# Altium schematic symbol library MI_Personal.SchLib: 995 symbols (part 10 of 12)
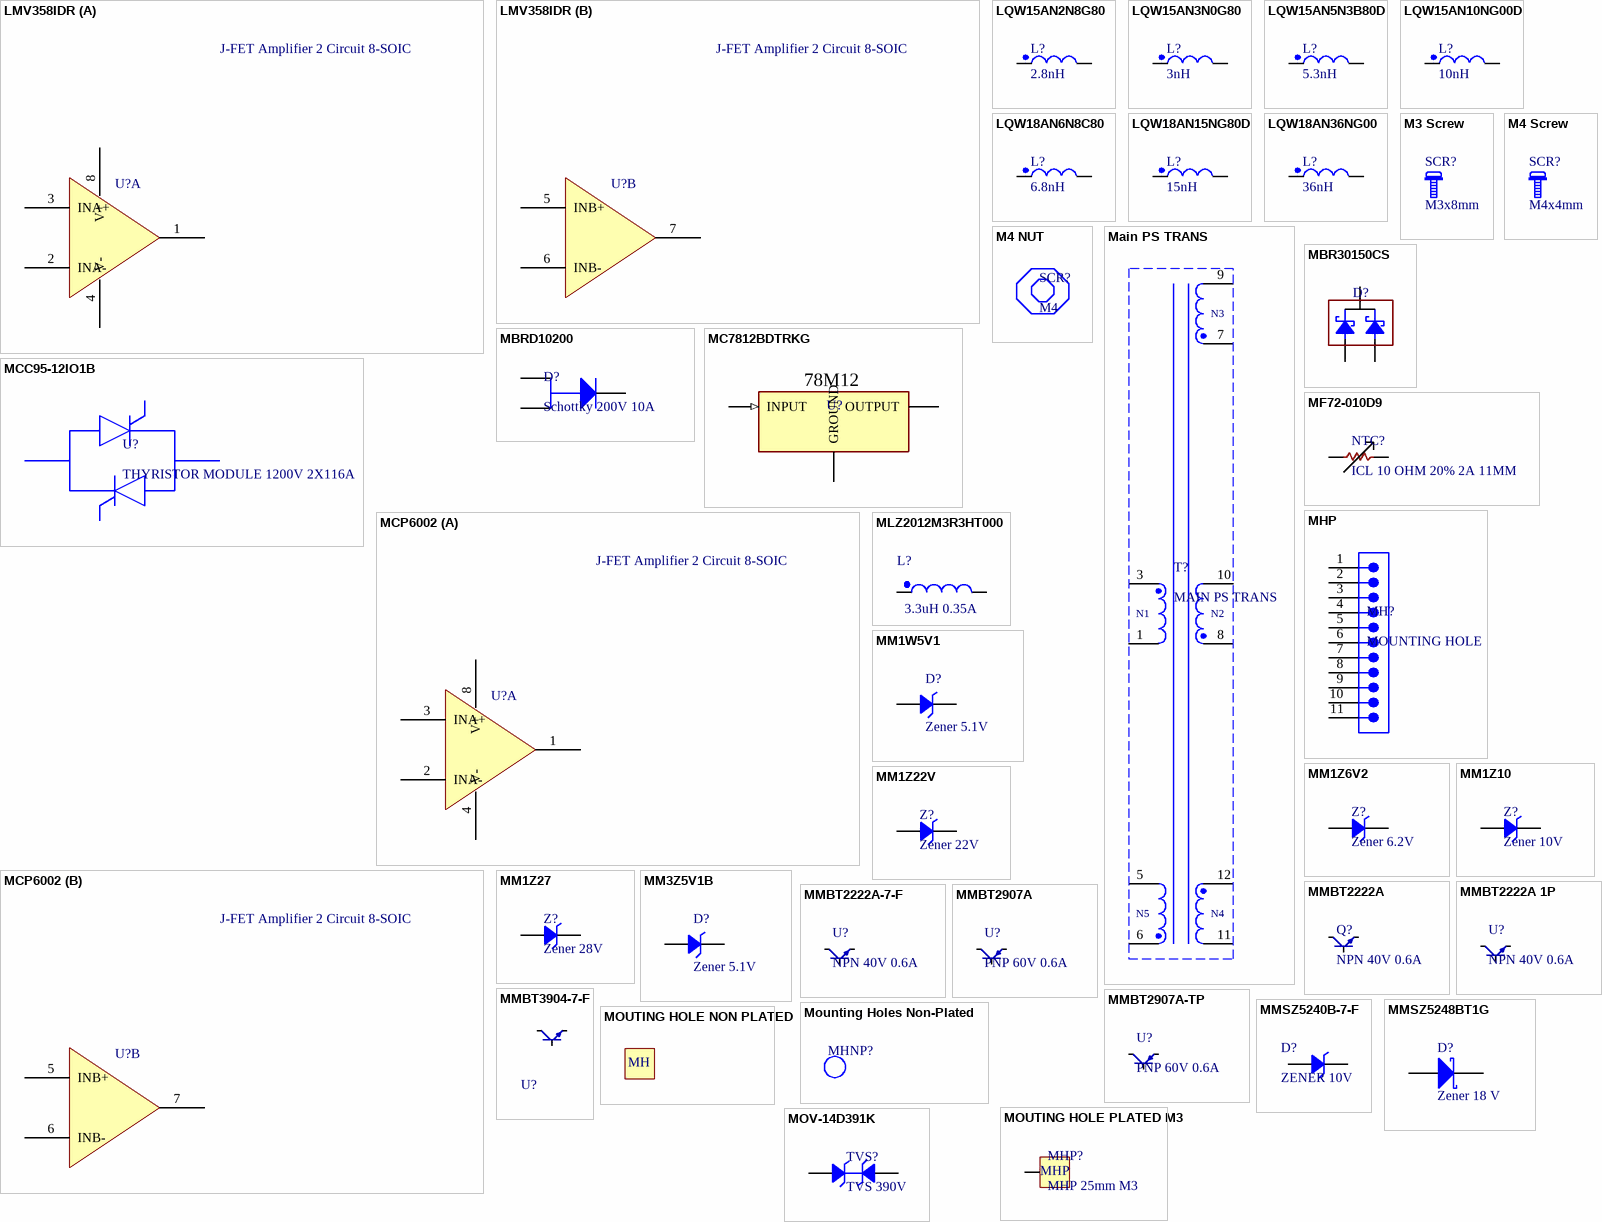
[diagram p36: symbols LMV358IDR to MOV-14D391K]

## M3 Screw
designator SCR?, comment M3x8mm  (mechanical)
MACH SCREW M3 Stainless Steel with Both Flat Washer and Spring Locking Washer; ComponentLink1Description: Supplier Link; ComponentLink1URL: https://yuanhonghardware.en.made-in-china.com/product/lGoYRHnrTcWE/China-Stainless-Steel-304-Indented-Phillips-Hex-Head-Machine-Screw-with-Flat-and-Spring-Washer-M3-M10-.html?pv_id=1ier004fa1cc&faw_id=1ier00aq0553; Supplier 1: Made In China; Supplier Part Number 1: https://yuanhonghardware.en.made-in-china.com/product/lGoYRHnrTcWE/China-Stainless-Steel-304-Indented-Phillips-Hex-Head-Machine-Screw-with-Flat-and-Spring-Washer-M3-M10-.html?pv_id=1ier004fa1cc&faw_id=1ier00aq0553

## M4 NUT
designator SCR?, comment M4  (mechanical)
MACH NUT M4 Stainless Steel; Supplier 1: Made In China; Supplier Part Number 1: https://yuanhonghardware.en.made-in-china.com/product/VAZYtWzvgDkG/China-Fastener-Stainless-Steel-304-Hexagon-Nuts-Metal-Hex-Nut-M2-M20-.html?pv_id=1iqdiia8bdf&faw_id=1iqdiifjoffa

## M4 Screw
designator SCR?, comment M4x4mm  (mechanical)
MACH SCREW M6 Stainless Steel with Both Flat Washer and Spring Locking Washer; ComponentLink1Description: Supplier Link; ComponentLink1URL: https://yuanhonghardware.en.made-in-china.com/product/lGoYRHnrTcWE/China-Stainless-Steel-304-Indented-Phillips-Hex-Head-Machine-Screw-with-Flat-and-Spring-Washer-M3-M10-.html?pv_id=1ier004fa1cc&faw_id=1ier00aq0553; Supplier 1: Made In China; Supplier Part Number 1: https://yuanhonghardware.en.made-in-china.com/product/lGoYRHnrTcWE/China-Stainless-Steel-304-Indented-Phillips-Hex-Head-Machine-Screw-with-Flat-and-Spring-Washer-M3-M10-.html?pv_id=1ier004fa1cc&faw_id=1ier00aq0553

## Main PS TRANS
designator T?, comment MAIN PS TRANS
TRANSFORMER FLYBACK
footprint SMPS Power Supply Transformer
pins: 1, 3, 5, 6, 7, 8, 9, 10, 11, 12
text: N3; N1; N2; N5; N4

## MBR30150CS
designator D?, comment DIODE ARR SCHOT 150V 15A TO263AB  (value not drawn)
Supplier 1: DigiKey; Supplier Part Number 1: 112-VB30150C-M3/8WCT-ND; Supplier 2: LCSC; Supplier Part Number 2: C22466281
footprint TO-263AB
pins: 1 A1, 2 A2, 3 C

## MBRD10200
designator D?, comment Schottky 200V 10A
DIODE SCHOTTKY 200V 10A DPAK; Supplier 1: Digikey; Supplier Part Number 1: 1655-SBRD10200CT-ND; Supplier 2: LCSC; Supplier Part Number 2: C5807938
footprint DPAK DIODE SMC Diode
pins: 1 A, 2 A, 3 K

## MC7812BDTRKG
designator U?, comment REG LINEAR 12V  (value not drawn)
IC REG LINEAR 12V 1A DPAK; Supplier 1: DigiKey; Supplier Part Number 1: MC7812BDTRKGOSCT-ND; Supplier 2: LCSC; Supplier Part Number 2: C126398
footprint DPACK
pins: 1 INPUT (in), 2 OUTPUT (power), 3 GROUND (power)
text: 78M12

## MCC95-12IO1B
designator U?, comment THYRISTOR MODULE 1200V 2X116A  (mechanical)
SCR Module 1.2 kV 180 A Series Connection - All SCRs Chassis Mount TO-240AA; Supplier 1: Digikey; Supplier 2: Mouser; Supplier Part Number 2: 747-MCC95-12IO1B; ComponentLink1Description: DIGIKEY; ComponentLink1URL: https://www.digikey.com/en/products/detail/ixys/MCC95-12IO1B/280991; ComponentLink2Description: FLYWING; ComponentLink2URL: https://www.flywing-tech.com/p/4987150?utm_source=octopart&utm_medium=cpc&utm_campaign=flywing_launch; Supplier Part Number 1: MCC95-12IO1B-ND

## MCP6002
designator U?, comment J-FET Amplifier 2 Circuit 8-SOIC
IC OPAMP GP 2 CIRCUIT 8SOIC RAIL TO RAIL; Supplier 1: UGE; Supplier Part Number 1: https://uge-one.com/product/gs6002-sr-mcp6002-compatible-1mhz-rail-to-rail-input-output-opamp-with-rf-filter-sop8/; ComponentLink1Description: UGE; ComponentLink1URL: https://uge-one.com/product/gs6002-sr-mcp6002-compatible-1mhz-rail-to-rail-input-output-opamp-with-rf-filter-sop8/
footprint SOIC-8 (SOIC - 1.75 mm max height / SMALL OUTLINE INTEGRATED CIRCUIT)
part A pins: 1 OUT, 2 INA-, 3 INA+, 4 V- (power), 8 V+ (power)
part B pins: 5 INB+, 6 INB-, 7 OUTB

## MF72-010D9
designator NTC?, comment ICL 10 OHM 20% 2A 11MM
Supplier 1: Digikey; Supplier Part Number 1: 495-76284-1-ND; Supplier 2: LCSC; Supplier Part Number 2: C72679; Supplier 3: Digikey; Supplier Part Number 3: 317-1161-ND; Supplier 4: LCSC; Supplier Part Number 4: C2839611
footprint NTC 7.5MM
pins: 1 A, 2 B

## MHP
designator MH?, comment MOUNTING HOLE  (no BOM)
MOUNTING HOLE FOR PIN HEADERS R=11mm P = 2.54mm
footprint MOUNTING HOLES P=2.54mm
pins: 1, 2, 3, 4, 5, 6, 7, 8, 9, 10, 11

## MLZ2012M3R3HT000
designator L?, comment 3.3uH 0.35A
FIXED IND 3.3uH 0805 0.350A; Supplier 1: LCSC; Supplier Part Number 1: C383407
footprint IND 0805
pins: 1, 2

## MM1W5V1
designator D?, comment Zener 5.1V
DIODE JLC ZENER  5.1 V 1W ±5% Surface Mount SOD-123; Supplier 1: LCSC; Supplier Part Number 1: C19077393
footprint SOD-123 (SOD, 2-Leads, Body 1.55x3.70mm, IPC Medium Density)
pins: 1, 2

## MM1Z6V2
designator Z?, comment Zener 6.2V
Diode Zener 6v2 SOD123; Supplier 1: Makers; Supplier Part Number 1: https://makerselectronics.com/product/mm1z6v2-wa-zener-diode-smd-single-5-8v6-6v-500mw-6-2v-sod-123; ComponentLink1Description: Makers; ComponentLink1URL: https://makerselectronics.com/product/mm1z6v2-wa-zener-diode-smd-single-5-8v6-6v-500mw-6-2v-sod-123
footprint SOD-123 (SOD, 2-Leads, Body 1.55x3.70mm, IPC Medium Density)
pins: 1, 2

## MM1Z10
designator Z?, comment Zener 10V
Diode Zener 10V SOD123; Supplier 1: Makers; Supplier Part Number 1: https://makerselectronics.com/product/mm1z10-wf-zener-diode-smd-single-9-4v10-6v-500mw-10v-sod-123/; ComponentLink1Description: Makers; ComponentLink1URL: https://makerselectronics.com/product/mm1z10-wf-zener-diode-smd-single-9-4v10-6v-500mw-10v-sod-123/
footprint SOD-123 (SOD, 2-Leads, Body 1.55x3.70mm, IPC Medium Density)
pins: 1, 2

## MM1Z22V
designator Z?, comment Zener 22V
Diode Zener 22V SOD123; Supplier 1: Makers; Supplier Part Number 1: https://makerselectronics.com/product/mm1z22v-wn-zener-diode-smd-single-20-8v23-3v-500mw-22v-sod-123/; ComponentLink1Description: Makers; ComponentLink1URL: https://makerselectronics.com/product/mm1z22v-wn-zener-diode-smd-single-20-8v23-3v-500mw-22v-sod-123/
footprint SOD-123 (SOD, 2-Leads, Body 1.55x3.70mm, IPC Medium Density)
pins: 1, 2

## MM1Z27
designator Z?, comment Zener 28V
Diode Zener 28V SOD123; Supplier 1: Makers; Supplier Part Number 1: https://makerselectronics.com/product/mm1z27-wp-zener-diode-smd-single-25-1v28-9v-500mw-27v-sod-123/; ComponentLink1Description: Makers; ComponentLink1URL: https://makerselectronics.com/product/mm1z27-wp-zener-diode-smd-single-25-1v28-9v-500mw-27v-sod-123/
footprint SOD-123 (SOD, 2-Leads, Body 1.55x3.70mm, IPC Medium Density)
pins: 1, 2

## MM3Z5V1B
designator D?, comment Zener 5.1V
DIODE JLC ZENER  5.1 V 300 mW ±5% Surface Mount SOD-323; Supplier 1: LCSC; Supplier Part Number 1: C22379454
footprint SOD 323 (SOD, 2-Leads, Body 1.25x2.50mm, IPC Medium Density)
pins: 1, 2

## MMBT2222A
designator Q?, comment NPN 40V 0.6A
TRANS NPN 40V 0.6A SOT-23-3; Supplier 1: MAKERS; Supplier Part Number 1: https://makerselectronics.com/product/mmbt2222a-40v-250mw-100150ma10v-600ma-npn-sot-23-bipolar-transistors-bjt/; ComponentLink1Description: MAKERS; ComponentLink1URL: https://makerselectronics.com/product/mmbt2222a-40v-250mw-100150ma10v-600ma-npn-sot-23-bipolar-transistors-bjt/
footprint SOT23-3 (SOT23-3, BAT54, DIODES INC)
pins: 1 B, 2 E, 3 C

## MMBT2222A 1P
designator U?, comment NPN 40V 0.6A
TRANS JLC NPN 40V 0.6A SOT-23-3; Supplier 2: LCSC; Supplier Part Number 2: C8512
footprint SOT23-3 (SOT23-3, BAT54, DIODES INC)
pins: 1 B, 2 E, 3 C

## MMBT2222A-7-F
designator U?, comment NPN 40V 0.6A
TRANS NPN 40V 0.6A SOT-23-3; Supplier 1: DigiKey; Supplier Part Number 1: MMBT2222A-FDICT-ND; Supplier 2: LCSC; Supplier Part Number 2: C179396; Supplier 3: Digikey; Supplier Part Number 3: MMBT2222ALT1GOSCT-ND; Supplier 4: LCSC; Supplier Part Number 4: C82460
footprint SOT23-3 (SOT23-3, BAT54, DIODES INC)
pins: 1 B, 2 E, 3 C

## MMBT2907A
designator U?, comment PNP 60V 0.6A
TRANS JLC PNP 60V 0.6A SOT-23; Supplier 1: LCSC; Supplier Part Number 1: C7420352
footprint SOT23-3 (SOT23-3, BAT54, DIODES INC)
pins: 1 B, 2 E, 3 C

## MMBT2907A-TP
designator U?, comment PNP 60V 0.6A
TRANS PNP 60V 0.6A SOT-23; Supplier 1: Digikey; Supplier Part Number 1: MMBT2907A-TPMSCT-ND; Supplier 2: LCSC; Supplier Part Number 2: C668968; Supplier 3: Digikey; Supplier Part Number 3: MMBT2907A-FDICT-ND; Supplier 4: LCSC; Supplier Part Number 4: C106923
footprint SOT23-3 (SOT23-3, BAT54, DIODES INC)
pins: 1 B, 2 E, 3 C

## MMBT3904-7-F
designator U?, comment TRANS NPN 40V 0.2A SOT23-3  (value not drawn)
TRANS NPN Bipolar (BJT)  40 V 200 mA 300MHz 300 mW Surface Mount SOT-23-3; Supplier 1: Digikey; Supplier Part Number 1: MMBT3904-FDICT-ND; Supplier 2: LCSC; Supplier Part Number 2: C94514; Supplier 3: Digikey; Supplier Part Number 3: MMBT3904LT1GOSCT-ND; Supplier 4: LCSC; Supplier Part Number 4: C81464
footprint SOT23 MMBT3904
pins: 1 B, 2 E, 3 C

## MMSZ5240B-7-F
designator D?, comment ZENER 10V
DIODE ZENER 10V 500MW SOD123; Supplier 1: Digikey; Supplier Part Number 1: BZT52C15-FDICT-ND; Supplier 2: LCSC; Supplier Part Number 2: C151060
footprint SOD-123 (SOD, 2-Leads, Body 1.55x3.70mm, IPC Medium Density)
pins: 1, 2

## MMSZ5248BT1G
designator D?, comment Zener 18 V
DIODE ZENER 18V 500MW SOD123; Supplier 1: Digikey; Supplier Part Number 1: MMSZ5248BT1GOSCT-ND; Supplier 2: LCSC; Supplier Part Number 2: C82088; Supplier 3: Digikey; Supplier Part Number 3: BZT52C18-FDICT-ND; Supplier 4: LCSC; Supplier Part Number 4: C192739
footprint SOD-123 (SOD, 2-Leads, Body 1.55x3.70mm, IPC Medium Density)
pins: 1 A, 2 K

## Mounting Holes Non-Plated
designator MHNP?, comment Mounting Hole NonPlated  (value not drawn)  (no BOM)
MHNP Mounting Hole for PCB Chassis Mounting
footprint Mounting Hole Non-Plated

## MOUTING HOLE NON PLATED
designator MHP?  (no BOM)
mechanical mounting hole non plated D 6mm
footprint mounting hole non plated D 5mm
footprint mounting hole non plated D 6mm
text: MH

## MOUTING HOLE PLATED M3
designator MHP?, comment MHP 25mm M3
SPACER M3 Mounting Hole 25mm; Supplier 1: RAM; Supplier Part Number 1: https://www.ram-e-shop.com/shop/spacer-cupper-25mf-copper-pcb-spacer-25mm-m-f-5575; ComponentLink1Description: RAM; ComponentLink1URL: https://www.ram-e-shop.com/shop/spacer-cupper-25mf-copper-pcb-spacer-25mm-m-f-5575
footprint Mounting Hole Plated (M3+SPACER 25MM)
pins: 1
text: MHP

## MOV-14D391K
designator TVS?, comment TVS 390V
VARISTOR 390V; Supplier 1: Makers; Supplier Part Number 1: https://makerselectronics.com/product/metal-oxide-varistor-mov-14d391k; ComponentLink1Description: Makers; ComponentLink1URL: https://makerselectronics.com/product/metal-oxide-varistor-mov-14d391k
footprint MOV-14D391K
pins: 1, 2

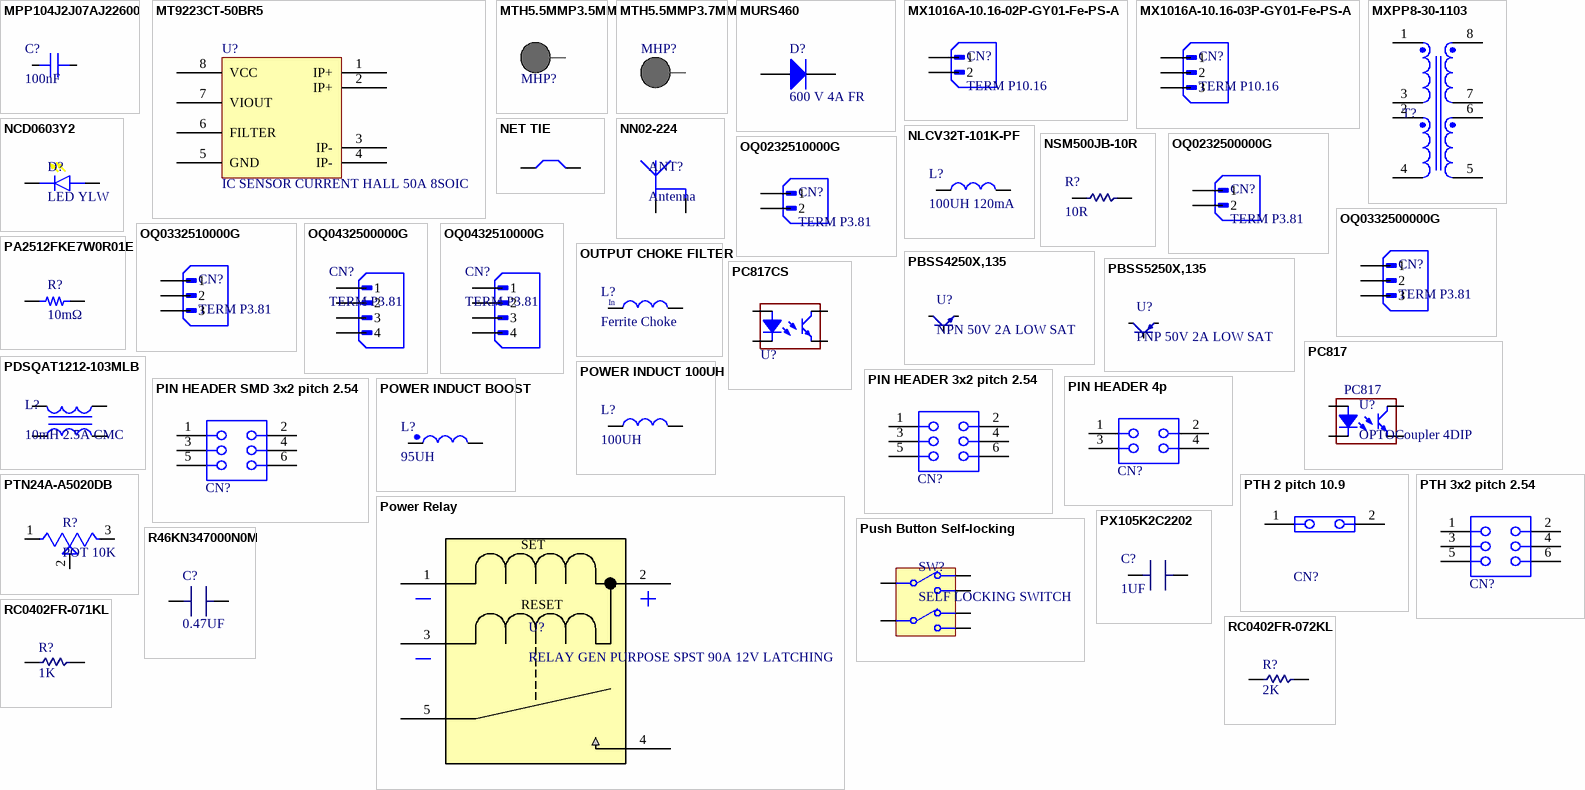
[diagram p17: symbols MPP104J2J07AJ22600 to RC0402FR-072KL]

## MPP104J2J07AJ22600
designator C?, comment 100nF
CAP FILM 100nF ±5% 630V TH; Supplier 1: LCSC; Supplier Part Number 1: C506826
footprint FILM Capacitor 7.5mm 5x10x10
pins: 1, 2

## MT9223CT-50BR5
designator U?, comment IC SENSOR CURRENT HALL 50A 8SOIC
IC Current Sensor 50A 1 Channel Hall Effect, Open Loop Bidirectional 8-SOIC (0.154", 3.90mm Width); Supplier 2: LCSC; Supplier Part Number 2: C2930869
footprint SOIC 8 ACS71240
pins: 1 IP+, 2 IP+, 3 IP-, 4 IP-, 5 GND, 6 FILTER, 7 VIOUT, 8 VCC

## MTH5.5MMP3.5MM
designator MHP?, comment Mounting Hole Plated 5 3.5MM  (value not drawn)  (no BOM)
footprint MTHP 5.5 3.5MM
pins: 1

## MTH5.5MMP3.7MM
designator MHP?, comment Mounting Hole Plated 5 3.7MM  (value not drawn)  (no BOM)
footprint MTHP 5.5 3.7MM
pins: 1

## MURS460
designator D?, comment 600 V 4A FR
Diode 600V 4A FAST RECOVERY SMC(DO-214AB); Supplier 1: DigiKey; Supplier Part Number 1: 31-MURS460CCT-ND; Supplier 2: LCSC; Supplier Part Number 2: C5818963
footprint DO-214AB-2 (Molded Diode, 2-Leads, Body 7.20x5.80mm, IPC Low Density)
pins: 1 A, 2 K

## MX1016A-10.16-02P-GY01-Fe-PS-A
designator CN?, comment TERM P10.16
CONN TERM SCREW HDR 2POS 10.16MM 57A; Supplier 1: LCSC; Supplier Part Number 1: C5188530
footprint Terminal Block P=10.16 2POS
pins: 1, 2

## MX1016A-10.16-03P-GY01-Fe-PS-A
designator CN?, comment TERM P10.16
CONN TERM SCREW HDR 3POS 10.16MM 57A; Supplier Part Number 1: C5188531; Supplier 1: LCSC
footprint Terminal Block P=10.16 3POS
pins: 1, 2, 3

## MXPP8-30-1103
designator T?, comment Pulse Transformer  (value not drawn)
TRANSFORMER SMD-8P,12.1x8.3mm Power Transformers ROHS; Supplier 1: LCSC; Supplier Part Number 1: C19943836
footprint Pulse Transformer 8Pin (Transformer 1:1:1:1)
pins: 1, 2, 3, 4, 5, 6, 7, 8

## NCD0603Y2
designator D?, comment LED YLW
LED YELLOW CHIP 0604 SMD; Supplier 2: LCSC; Supplier Part Number 2: C89811
footprint LED 0603
pins: 1 A, 2 C

## NET TIE
designator NT?  (net tie, no BOM)
NET TIE
footprint NET TIE
pins: 1, 2

## NLCV32T-101K-PF
designator L?, comment 100UH 120mA
FIXED IND 100UH 120MA 4.81OHM SM; Supplier 1: Digikey; Supplier Part Number 1: 445-1543-1-ND; Supplier 2: LCSC; Supplier Part Number 2: C75081; Supplier 3: Digikey; Supplier Part Number 3: 587-1628-1-ND; Supplier 4: LCSC; Supplier Part Number 4: C90316
footprint IND 1210_3225
pins: 1 A, 2 B

## NN02-224
designator ANT?, comment Antenna
RF ANTENNA RUN MXTEND MULTIBAND; Supplier 1: DigiKey; Supplier Part Number 1: 2115-NN02-224CT-ND; Supplier 2: WORLDWAY; Supplier Part Number 2: NN02-224
footprint NN02-224 (RUN MXTEND MULTIBAND ANTENNA)
pins: 1, 2

## NSM500JB-10R
designator R?, comment 10R
RES 10 OHM 5% 5W RADIAL CEMENT RESISTOR; Supplier 1: DigiKey; Supplier Part Number 1: 13-NSM500JB-10R-ND
footprint RES_SQM5 P=5mm
pins: 1 A, 2 B

## OQ0232500000G
designator CN?, comment TERM P3.81
CONN TERM PLUG HDR 2POS 3.81MM VERT; Supplier 2: LCSC; Supplier Part Number 2: C8396; Supplier 1: DigiKey; Supplier Part Number 1: 609-3808-ND
footprint Terminal Block Pluggable P=3.81 2 POS VERT (Vertical PCB Header, pitch 3.81mm, 02p)
pins: 1, 2

## OQ0232510000G
designator CN?, comment TERM P3.81
CONN TERM PLUG HDR 2POS 3.81MM; Supplier 1: DigiKey; Supplier Part Number 1: 609-3819-ND; Supplier 2: LCSC; Supplier Part Number 2: C8387
footprint Terminal Block Pluggable P=3.81 2 POS (Horizontal PCB Header, pitch 3.81mm, 02p)
pins: 1, 2

## OQ0332500000G
designator CN?, comment TERM P3.81
CONN TERM PLUG HDR 3POS 3.81MM VERT; Supplier 1: DigiKey; Supplier Part Number 1: 609-3809-ND; Supplier 2: LCSC; Supplier Part Number 2: C8389
footprint Terminal Block Pluggable P=3.81 3 POS VERT (Vertical PCB Header, pitch 3.81mm, 03p)
pins: 1, 2, 3

## OQ0332510000G
designator CN?, comment TERM P3.81
CONN TERM PLUG HDR 3POS 3.81MM; Supplier 1: DigiKey; Supplier Part Number 1: 609-3820-ND; Supplier 2: LCSC; Supplier Part Number 2: C8387
footprint Terminal Block Pluggable P=3.81 3 POS (Horizontal PCB Header, pitch 3.81mm, 03p)
pins: 1, 2, 3

## OQ0432500000G
designator CN?, comment TERM P3.81
CONN TERM PLUG HDR 4POS 3.81MM VERT; Supplier 1: DigiKey; Supplier Part Number 1: 609-3810-ND; Supplier 2: LCSC; Supplier Part Number 2: C8410
footprint Terminal Block Pluggable P=3.81 4 POS VERT (Vertical PCB Header, pitch 3.81mm, 04p)
pins: 1, 2, 3, 4

## OQ0432510000G
designator CN?, comment TERM P3.81
CONN TERM PLUG HDR 4POS 3.81MM; Supplier 1: DigiKey; Supplier Part Number 1: 609-3821-ND; Supplier 2: LCSC; Supplier Part Number 2: C7245
footprint Terminal Block Pluggable P=3.81 4 POS (Horizontal PCB Header, pitch 3.81mm, 04p)
pins: 1, 2, 3, 4

## OUTPUT CHOKE FILTER
designator L?, comment Ferrite Choke
FIXED IND 4UH FERRITE
footprint Output Filter Choke
pins: 1 A, 2 B
text: In

## PA2512FKE7W0R01E
designator R?, comment 10mΩ
RES SMD 0.01 OHM 1% 2W 2512 CURRENT SENSE; Supplier 1: LCSC; Supplier Part Number 1: C375688
footprint RES 2512 SENSE RES YAGEO 7m < R < 20m (Footprint not found)
pins: 1, 2

## PBSS4250X,135
designator U?, comment NPN 50V 2A LOW SAT
TRANS NPN 50V 2A SOT-89; Supplier 1: Digikey; Supplier Part Number 1: 1727-5365-1-ND; Supplier 2: LCSC; Supplier Part Number 2: C477987
footprint SOT89 (SOT89, 3-Leads, Body 4.50x2.50mm, Pitch 1.50mm, Lead Span 4.1mm, IPC Medium Density)
pins: 1 B, 2 E, 3 C

## PBSS5250X,135
designator U?, comment PNP 50V 2A LOW SAT
TRANS PNP 50V 2A SOT-89; Supplier 1: Digikey; Supplier Part Number 1: 1727-1198-1-ND; Supplier 2: LCSC; Supplier Part Number 2: C513116
footprint SOT89 (SOT89, 3-Leads, Body 4.50x2.50mm, Pitch 1.50mm, Lead Span 4.1mm, IPC Medium Density)
pins: 1 B, 2 E, 3 C

## PC817
designator U?, comment OPTOCoupler 4DIP
IC OPTOISOLATOR 1CH TRANS 4-DIP; Supplier 1: Makers; Supplier Part Number 1: https://makerselectronics.com/product/pc817-photocoupler-ic-dip-4; ComponentLink1Description: Makers; ComponentLink1URL: https://makerselectronics.com/product/pc817-photocoupler-ic-dip-4
footprint OPTOCOUPLE PC817 DIP
pins: 1, 2, 3, 4

## PC817CS
designator U?, comment OPTOISOLATOR 5KV TRANSISTOR 4SMD  (value not drawn)
IC Optoisolator Transistor Output 5000Vrms 1 Channel 4-SMD; Supplier 2: LCSC; Supplier Part Number 2: C20612591
footprint SOP 4 817 OptoCoupler (SOP, 4-Leads, Body 4.60x6.50mm, Pitch 2.54mm, IPC Medium Density)
pins: 1, 2, 3, 4

## PDSQAT1212-103MLB
designator L?, comment 10mH 2.5A CMC
FIXED CMC 10mH 2.5A 2LN TH; Supplier 1: Worldway Electronics; Supplier Part Number 1: PDSQAT1212-103MLB; Supplier 2: LCSC; Supplier Part Number 2: C5157134
footprint common mode choke P8x6 S18x11
pins: 1, 2, 3, 4

## PIN HEADER 3x2 pitch 2.54
designator CN?, comment CONN PIN HEADER 3x2  (value not drawn)
CONN Socket Header, THT, Vertical, pitch 2.54mm, 2 Row, 6P
footprint PIN HEADER TH 2x3 (Pin Header, pitch 2.54 mm, THT, Vertical, dual row, 6p)
pins: 1, 2, 3, 4, 5, 6

## PIN HEADER 4p
designator CN?, comment PIN HEADER 4P  (value not drawn)
CONN CONN PIN HEADER VERT 4POS 2.54MM
footprint PIN HEADER 4P 2.54mm (Pin Header, pitch 2.54 mm, THT, Vertical, single row, 4p)
pins: 1, 2, 3, 4

## PIN HEADER SMD 3x2 pitch 2.54
designator CN?, comment CONN PIN HEADER 3x2  (value not drawn)
CONN SMD Socket Header, THT, Vertical, pitch 2.54mm, 2 Row, 6P
footprint PIN HEADER SMD 2x3 (Pin Header, pitch 2.54 mm, SMD, Vertical, dual row, 6p)
pins: 1, 2, 3, 4, 5, 6

## POWER INDUCT 100UH
designator L?, comment 100UH
FIXED INDUCT 100UH 7A
footprint POWER INDUCT 100UH
pins: 1 A, 2 B

## POWER INDUCT BOOST
designator L?, comment 95UH
FIXED INDUCT POWER 95UH
footprint power inductor pfc 95uh
pins: 1 A, 2 B

## Power Relay
designator U?, comment RELAY GEN PURPOSE SPST 90A 12V LATCHING
ComponentLink1Description: Made In China; ComponentLink1URL: https://goodvic.en.made-in-china.com/product/LaHrmShUaocb/China-Customized-Automotive-Latching-Relay-and-Shunt-Assemblies-for-Energy-Meters.html?pv_id=1ifn7fe6sb2d&faw_id=1ifn7fev6445; Supplier 1: Made In China; Supplier Part Number 1: https://goodvic.en.made-in-china.com/product/LaHrmShUaocb/China-Customized-Automotive-Latching-Relay-and-Shunt-Assemblies-for-Energy-Meters.html?pv_id=1ifn7fe6sb2d&faw_id=1ifn7fev6445
footprint CUSTOM Power Relay
pins: 1, 2 4, 3 2, 4 3, 5
text: SET; RESET

## PTH 2 pitch 10.9
designator CN?  (value not drawn)
CONN PTH 2 pitch 10.9  D=1.1 , 2 Row, 6P
footprint PTH 2POS To-247 GATE SOURCE
pins: 1 G, 2 S

## PTH 3x2 pitch 2.54
designator CN?, comment PTH 3x2 P=2.54 D=1.1  (value not drawn)
CONN PTH 3x2 P=2.54 D=1.1 , 2 Row, 6P
footprint PTH 2x3 D=1.1mm p= 2.54 mm (pitch 2.54 mm, THT, dual row, 6p)
pins: 1, 2, 3, 4, 5, 6

## PTN24A-A5020DB
designator R?, comment POT 10K
RES POT TH 10K; Supplier 1: Makers; Supplier Part Number 1: https://makerselectronics.com/product/metal-potentiometer-10k-ohm-3-pin; ComponentLink1Description: Makers; ComponentLink1URL: https://makerselectronics.com/product/metal-potentiometer-10k-ohm-3-pin
footprint TRIM_PTN24A-A5020DB
pins: 1, 2, 3

## Push Button Self-locking
designator SW?, comment SELF LOCKING SWITCH
SWITCH SELF LOCKING 6PIN 5.8X5.8
footprint Push Button 5.8×5.8mm latching
pins: 1, 2, 3, 4, 5, 6

## PX105K2C2202
designator C?, comment 1UF
CAP FILM 1UF 20% 630VDC RADIAL; Supplier 1: DigiKey; Supplier Part Number 1: 399-5870-ND; Supplier 2: LCSC; Supplier Part Number 2: C390065
footprint CAP FILM 22.5mm
pins: 1 A, 2 B

## R46KN347000N0M
designator C?, comment 0.47UF
CAP FILM 0.47UF 20% 560VDC RAD; Supplier 1: Digikey; Supplier Part Number 1: 399-5465-ND; Supplier 2: LCSC; Supplier Part Number 2: C489090; Supplier 3: Digikey; Supplier Part Number 3: 495-4206-ND; Supplier 4: LCSC; Supplier Part Number 4: C484945
footprint CAP_R46KN347000N0M_KEM
pins: 1 A, 2 B

## RC0402FR-071KL
designator R?, comment 1K
RES SMD 1K OHM 1% 1/16W 0402; Supplier 1: DigiKey; Supplier Part Number 1: 311-1.00KLRCT-ND; Supplier 2: LCSC; Supplier Part Number 2: C106235
footprint RES 0402_1005 (Chip Resistor, 2-Leads, Body 1.0x0.5mm, IPC Medium Density)
pins: 1 A, 2 B

## RC0402FR-072KL
designator R?, comment 2K
RES SMD 2K OHM 1% 1/16W 0402; Supplier 1: DigiKey; Supplier Part Number 1: 311-2KLRCT-ND; Supplier 2: LCSC; Supplier Part Number 2: C60488
footprint RES 0402_1005 (Chip Resistor, 2-Leads, Body 1.0x0.5mm, IPC Medium Density)
pins: 1 A, 2 B

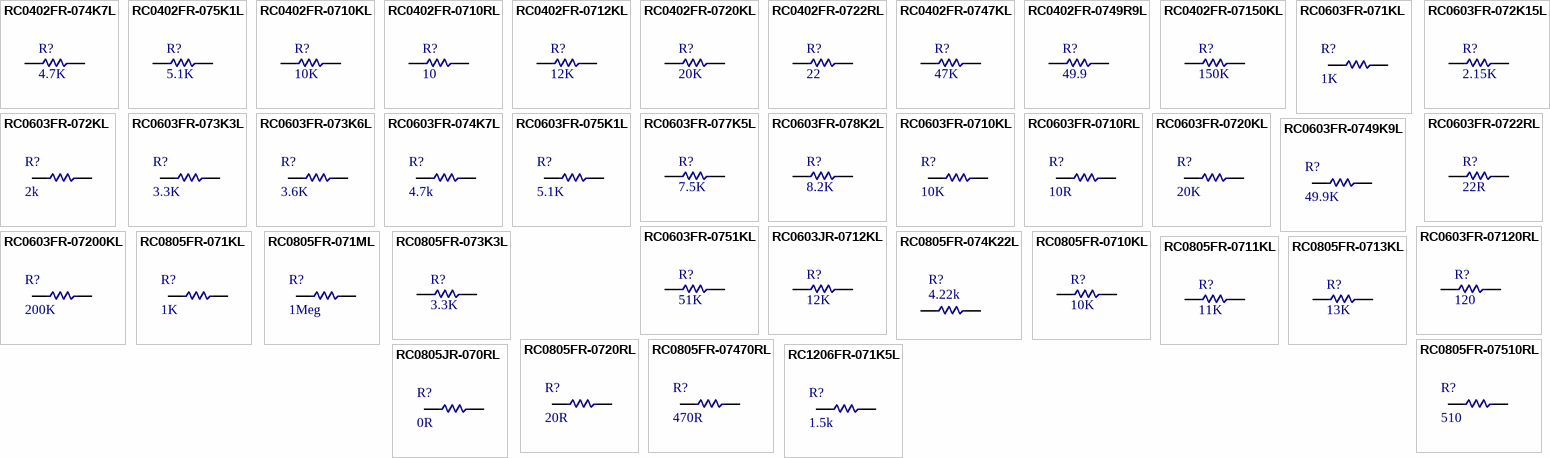
[diagram p18: symbols RC0402FR-074K7L to RC1206FR-071K5L]

## RC0402FR-074K7L
designator R?, comment 4.7K
RES SMD 4.7K OHM 1% 1/16W 0402; Supplier 1: DigiKey; Supplier Part Number 1: 311-4.7KLRCT-ND; Supplier 2: LCSC; Supplier Part Number 2: C105871
footprint RES 0402_1005 (Chip Resistor, 2-Leads, Body 1.0x0.5mm, IPC Medium Density)
pins: 1 A, 2 B

## RC0402FR-075K1L
designator R?, comment 5.1K
RES SMD 5.1K OHM 1% 1/16W 0402; Supplier 1: DigiKey; Supplier Part Number 1: 311-5.10KLRCT-ND; Supplier 2: LCSC; Supplier Part Number 2: C105872
footprint RES 0402_1005 (Chip Resistor, 2-Leads, Body 1.0x0.5mm, IPC Medium Density)
pins: 1 A, 2 B

## RC0402FR-0710KL
designator R?, comment 10K
RES SMD 10K OHM 1% 1/16W 0402; Supplier 1: DigiKey; Supplier Part Number 1: 311-10.0KLRCT-ND; Supplier 2: LCSC; Supplier Part Number 2: C60490
footprint RES 0402_1005 (Chip Resistor, 2-Leads, Body 1.0x0.5mm, IPC Medium Density)
pins: 1 A, 2 B

## RC0402FR-0710RL
designator R?, comment 10
RES SMD 10 OHM 1% 1/16W 0402; Supplier 1: DigiKey; Supplier Part Number 1: 311-10.0LRCT-ND; Supplier 2: LCSC; Supplier Part Number 2: C138066
footprint RES 0402_1005 (Chip Resistor, 2-Leads, Body 1.0x0.5mm, IPC Medium Density)
pins: 1 A, 2 B

## RC0402FR-0712KL
designator R?, comment 12K
RES SMD 12K OHM 1% 1/16W 0402; Supplier 1: DigiKey; Supplier Part Number 1: 311-12.0KLRCT-ND; Supplier 2: LCSC; Supplier Part Number 2: C114760
footprint RES 0402_1005 (Chip Resistor, 2-Leads, Body 1.0x0.5mm, IPC Medium Density)
pins: 1 A, 2 B

## RC0402FR-0720KL
designator R?, comment 20K
RES SMD 20K OHM 1% 1/16W 0402; Supplier 1: DigiKey; Supplier Part Number 1: 311-20.0KLRCT-ND; Supplier 2: LCSC; Supplier Part Number 2: C93942
footprint RES 0402_1005 (Chip Resistor, 2-Leads, Body 1.0x0.5mm, IPC Medium Density)
pins: 1 A, 2 B

## RC0402FR-0722RL
designator R?, comment 22
RES SMD 22 OHM 1% 1/16W 0402; Supplier 1: DigiKey; Supplier Part Number 1: 311-22.0LRCT-ND; Supplier 2: LCSC; Supplier Part Number 2: C114765
footprint RES 0402_1005 (Chip Resistor, 2-Leads, Body 1.0x0.5mm, IPC Medium Density)
pins: 1 A, 2 B

## RC0402FR-0747KL
designator R?, comment 47K
RES SMD 47K OHM 1% 1/16W 0402; Supplier 1: DigiKey; Supplier Part Number 1: 311-47.0KLRCT-ND; Supplier 2: LCSC; Supplier Part Number 2: C93943
footprint RES 0402_1005 (Chip Resistor, 2-Leads, Body 1.0x0.5mm, IPC Medium Density)
pins: 1 A, 2 B

## RC0402FR-0749R9L
designator R?, comment 49.9
RES SMD 49.9 OHM 1% 1/16W 0402; Supplier 1: DigiKey; Supplier Part Number 1: 311-49.9LRCT-ND; Supplier 2: LCSC; Supplier Part Number 2: C87044
footprint RES 0402_1005 (Chip Resistor, 2-Leads, Body 1.0x0.5mm, IPC Medium Density)
pins: 1 A, 2 B

## RC0402FR-07150KL
designator R?, comment 150K
RES SMD 150K OHM 1% 1/16W 0402; Supplier 1: DigiKey; Supplier Part Number 1: 311-150KLRCT-ND; Supplier 2: LCSC; Supplier Part Number 2: C93947
footprint RES 0402_1005 (Chip Resistor, 2-Leads, Body 1.0x0.5mm, IPC Medium Density)
pins: 1 A, 2 B

## RC0603FR-071KL
designator R?, comment 1K
RES SMD 1K OHM 1% 1/10W 0603; Supplier 1: Digikey; Supplier Part Number 1: 311-1.00KHRCT-ND; Supplier 2: LCSC; Supplier Part Number 2: C22548; Supplier 3: Digikey; Supplier Part Number 3: 541-1.00KHCT-ND; Supplier 4: LCSC; Supplier Part Number 4: C844920
footprint RES 0603_1608 (Chip Resistor, 2-Leads, Body 1.60x0.80mm, IPC Medium Density)
pins: 1 A, 2 B

## RC0603FR-072K15L
designator R?, comment 2.15K
RES SMD 2.15K OHM 1% 1/10W 0603; Supplier 1: Digikey; Supplier Part Number 1: 311-2.15KHRCT-ND; Supplier 2: LCSC; Supplier Part Number 2: C273772; Supplier 3: Digikey; Supplier Part Number 3: 541-2.15KHCT-ND; Supplier 4: LCSC; Supplier Part Number 4: C2092052
footprint RES 0603_1608 (Chip Resistor, 2-Leads, Body 1.60x0.80mm, IPC Medium Density)
pins: 1 A, 2 B

## RC0603FR-072KL
designator R?, comment 2k
RES SMD 2K OHM 1% 1/10W 0603; Supplier 1: Digikey; Supplier Part Number 1: 311-2.00KHRCT-ND; Supplier 2: LCSC; Supplier Part Number 2: C105576; Supplier 3: Digikey; Supplier Part Number 3: 541-2.00KHCT-ND; Supplier 4: LCSC; Supplier Part Number 4: C844924
footprint RES 0603_1608 (Chip Resistor, 2-Leads, Body 1.60x0.80mm, IPC Medium Density)
pins: 1 A, 2 B

## RC0603FR-073K3L
designator R?, comment 3.3K
RES SMD 3.3K OHM 1% 1/10W 0603; Supplier 1: DigiKey; Supplier Part Number 1: 311-3.30KHRCT-ND; Supplier 2: LCSC; Supplier Part Number 2: C108078; Supplier 3: Digikey; Supplier Part Number 3: 541-3.30KHCT-ND; Supplier 4: LCSC; Supplier Part Number 4: C844928
footprint RES 0603_1608 (Chip Resistor, 2-Leads, Body 1.60x0.80mm, IPC Medium Density)
pins: 1 A, 2 B

## RC0603FR-073K6L
designator R?, comment 3.6K
RES SMD 3.6K OHM 1% 1/10W 0603; Supplier 1: Digikey; Supplier Part Number 1: 311-3.60KHRCT-ND; Supplier 2: LCSC; Supplier Part Number 2: C137729; Supplier 3: Digikey; Supplier Part Number 3: 541-3.60KHCT-ND; Supplier 4: LCSC; Supplier Part Number 4: C844363
footprint RES 0603_1608 (Chip Resistor, 2-Leads, Body 1.60x0.80mm, IPC Medium Density)
pins: 1 A, 2 B

## RC0603FR-074K7L
designator R?, comment 4.7k
RES SMD 4.7K OHM 1% 1/10W 0603; Supplier 1: Digikey; Supplier Part Number 1: 311-4.70KHRCT-ND; Supplier 2: LCSC; Supplier Part Number 2: C99782; Supplier 3: Digikey; Supplier Part Number 3: P4.70KHCT-ND; Supplier 4: LCSC; Supplier Part Number 4: C192166
footprint RES 0603_1608 (Chip Resistor, 2-Leads, Body 1.60x0.80mm, IPC Medium Density)
pins: 1 A, 2 B

## RC0603FR-075K1L
designator R?, comment 5.1K
RES SMD 5.1K OHM 1% 1/10W 0603; Supplier 1: Digikey; Supplier Part Number 1: 311-5.10KHRCT-ND; Supplier 2: LCSC; Supplier Part Number 2: C105580; Supplier 3: Digikey; Supplier Part Number 3: P5.10KHCT-ND; Supplier 4: LCSC; Supplier Part Number 4: C123727
footprint RES 0603_1608 (Chip Resistor, 2-Leads, Body 1.60x0.80mm, IPC Medium Density)
pins: 1 A, 2 B

## RC0603FR-077K5L
designator R?, comment 7.5K
RES SMD 7.5K OHM 1% 1/10W 0603; Supplier 1: Digikey; Supplier Part Number 1: 311-7.50KHRCT-ND; Supplier 2: LCSC; Supplier Part Number 2: C114634; Supplier 3: Digikey; Supplier Part Number 3: P7.50KHCT-ND; Supplier 4: LCSC; Supplier Part Number 4: C123725
footprint RES 0603_1608 (Chip Resistor, 2-Leads, Body 1.60x0.80mm, IPC Medium Density)
pins: 1 A, 2 B

## RC0603FR-078K2L
designator R?, comment 8.2K
RES SMD 8.2K OHM 1% 1/10W 0603; Supplier 1: Digikey; Supplier Part Number 1: 311-8.20KHRCT-ND; Supplier 2: LCSC; Supplier Part Number 2: C114637; Supplier 3: Digikey; Supplier Part Number 3: P8.20KHCT-ND; Supplier 4: LCSC; Supplier Part Number 4: C403365
footprint RES 0603_1608 (Chip Resistor, 2-Leads, Body 1.60x0.80mm, IPC Medium Density)
pins: 1 A, 2 B

## RC0603FR-0710KL
designator R?, comment 10K
RES SMD 10K OHM 1% 1/10W 0603; Supplier 1: Digikey; Supplier Part Number 1: 311-10.0KHRCT-ND; Supplier 2: LCSC; Supplier Part Number 2: C98220; Supplier 3: Digikey; Supplier Part Number 3: P10KGCT-ND; Supplier 4: LCSC; Supplier Part Number 4: C169849
footprint RES 0603_1608 (Chip Resistor, 2-Leads, Body 1.60x0.80mm, IPC Medium Density)
pins: 1 A, 2 B

## RC0603FR-0710RL
designator R?, comment 10R
RES SMD 10R OHM 1% 1/10W 0603; Supplier 1: DigiKey; Supplier Part Number 1: 311-10.0HRCT-ND; Supplier 2: LCSC; Supplier Part Number 2: C109318
footprint RES 0603_1608 (Chip Resistor, 2-Leads, Body 1.60x0.80mm, IPC Medium Density)
pins: 1 A, 2 B

## RC0603FR-0720KL
designator R?, comment 20K
RES SMD 20K OHM 1% 1/10W 0603; ComponentLink1Description: DIGIKEY; ComponentLink1URL: https://www.digikey.com/en/products/detail/yageo/RC0603FR-0720KL/727040; ComponentLink2Description: LCSC; ComponentLink2URL: https://www.lcsc.com/product-detail/Chip-Resistor-Surface-Mount_YAGEO-RC0603FR-0720KL_C105575.html; Supplier 1: Digikey; Supplier Part Number 1: 311-20.0KHRCT-ND; Supplier 2: LCSC; Supplier Part Number 2: C105575; Supplier 3: Digikey; Supplier Part Number 3: P20.0KHCT-ND; Supplier 4: LCSC; Supplier Part Number 4: C403057
footprint RES 0603_1608 (Chip Resistor, 2-Leads, Body 1.60x0.80mm, IPC Medium Density)
pins: 1 A, 2 B

## RC0603FR-0722RL
designator R?, comment 22R
RES SMD 22 OHM 1% 1/10W 0603; Supplier 1: Digikey; Supplier Part Number 1: 311-22.0HRCT-ND; Supplier 2: LCSC; Supplier Part Number 2: C107701; Supplier 3: Digikey; Supplier Part Number 3: P22.0HCT-ND; Supplier 4: LCSC; Supplier Part Number 4: C2907129
footprint RES 0603_1608 (Chip Resistor, 2-Leads, Body 1.60x0.80mm, IPC Medium Density)
pins: 1 A, 2 B

## RC0603FR-0749K9L
designator R?, comment 49.9K
RES SMD 49.9K OHM 1% 1/10W 0603; Supplier 1: Digikey; Supplier Part Number 1: 311-49.9KHRCT-ND; Supplier 2: LCSC; Supplier Part Number 2: C114624; Supplier 3: Digikey; Supplier Part Number 3: P49.9KHCT-ND; Supplier 4: LCSC; Supplier Part Number 4: C403254
footprint RES 0603_1608 (Chip Resistor, 2-Leads, Body 1.60x0.80mm, IPC Medium Density)
pins: 1 A, 2 B

## RC0603FR-0751KL
designator R?, comment 51K
RES SMD 51K OHM 1% 1/10W 0603; Supplier 1: Digikey; Supplier Part Number 1: 311-51.0KHRCT-ND; Supplier 2: LCSC; Supplier Part Number 2: C107231; Supplier 3: Digikey; Supplier Part Number 3: P51.0KHCT-ND; Supplier 4: LCSC; Supplier Part Number 4: C2907049
footprint RES 0603_1608 (Chip Resistor, 2-Leads, Body 1.60x0.80mm, IPC Medium Density)
pins: 1 A, 2 B

## RC0603FR-07120RL
designator R?, comment 120
RES SMD 120 OHM 1% 1/10W 0603; Supplier 1: Digikey; Supplier Part Number 1: P120HCT-ND; Supplier 2: LCSC; Supplier Part Number 2: C114640
footprint RES 0603_1608 (Chip Resistor, 2-Leads, Body 1.60x0.80mm, IPC Medium Density)
pins: 1 A, 2 B

## RC0603FR-07200KL
designator R?, comment 200K
RES SMD 200K OHM 1% 1/10W 0603; ComponentLink1Description: DIGIKEY; ComponentLink1URL: https://www.digikey.com/en/products/detail/yageo/RC0603FR-07200KL/727044; ComponentLink2Description: LCSC; ComponentLink2URL: https://www.lcsc.com/product-detail/Chip-Resistor-Surface-Mount_YAGEO-RC0603FR-07200KL_C105574.html; Supplier 1: Digikey; Supplier Part Number 1: 311-200KHRCT-ND; Supplier 2: LCSC; Supplier Part Number 2: C105574; Supplier 3: Digikey; Supplier Part Number 3: P200KHCT-ND; Supplier 4: LCSC; Supplier Part Number 4: C118142
footprint RES 0603_1608 (Chip Resistor, 2-Leads, Body 1.60x0.80mm, IPC Medium Density)
pins: 1 A, 2 B

## RC0603JR-0712KL
designator R?, comment 12K
RES SMD 12K OHM 5% 1/10W 0603; Supplier 1: Digikey; Supplier Part Number 1: 311-12KGRCT-ND; Supplier 2: LCSC; Supplier Part Number 2: C137662; Supplier 3: Digikey; Supplier Part Number 3: P12KGCT-ND; Supplier 4: LCSC; Supplier Part Number 4: C22790
footprint RES 0603_1608 (Chip Resistor, 2-Leads, Body 1.60x0.80mm, IPC Medium Density)
pins: 1 A, 2 B

## RC0805FR-071KL
designator R?, comment 1K
RES SMD 1K OHM 1% 1/8W 0805; Supplier 1: DigiKey; Supplier Part Number 1: 311-1.00KCRCT-ND; Supplier 2: LCSC; Supplier Part Number 2: C95781; Supplier 3: Digikey; Supplier Part Number 3: 541-1.00KCCT-ND; Supplier 4: LCSC; Supplier Part Number 4: C844939
footprint RES 0805_2012 (Chip Resistor, 2-Leads, Body 2.00x1.25mm, IPC Medium Density)
pins: 1 A, 2 B

## RC0805FR-071ML
designator R?, comment 1Meg
RES SMD 1M OHM 1% 1/8W 0805; Supplier 1: DigiKey; Supplier Part Number 1: 311-1.00MCRCT-ND; Supplier 2: LCSC; Supplier Part Number 2: C107700
footprint RES 0805_2012 (Chip Resistor, 2-Leads, Body 2.00x1.25mm, IPC Medium Density)
pins: 1 A, 2 B

## RC0805FR-073K3L
designator R?, comment 3.3K
RES SMD 3.3K OHM 1% 1/8W 0805; Supplier 1: DigiKey; Supplier Part Number 1: 311-3.30KCRCT-ND; Supplier 2: LCSC; Supplier Part Number 2: C114531; Supplier 3: Digikey; Supplier Part Number 3: 541-3.30KCCT-ND; Supplier 4: LCSC; Supplier Part Number 4: C844842
footprint RES 0805_2012 (Chip Resistor, 2-Leads, Body 2.00x1.25mm, IPC Medium Density)
pins: 1 A, 2 B

## RC0805FR-074K22L
designator R?, comment 4.22k
RES SMD 4.22K OHM 1% 1/8W 0805; Supplier 1: Digikey; Supplier Part Number 1: 311-4.22KCRCT-ND; Supplier 2: LCSC; Supplier Part Number 2: C273912; Supplier 3: Digikey; Supplier Part Number 3: P4.22KCCT-ND; Supplier 4: LCSC; Supplier Part Number 4: C2078670
footprint RES 0805_2012 (Chip Resistor, 2-Leads, Body 2.00x1.25mm, IPC Medium Density)
pins: 1 A, 2 B

## RC0805FR-0710KL
designator R?, comment 10K
RES SMD 10K OHM 1% 1/8W 0805; Supplier 1: Digikey; Supplier Part Number 1: 311-10.0KCRCT-ND; Supplier 2: LCSC; Supplier Part Number 2: C84376; Supplier 3: Digikey; Supplier Part Number 3: 311-10KLGCT-ND; Supplier 4: LCSC; Supplier Part Number 4: C140868
footprint RES 0805_2012 (Chip Resistor, 2-Leads, Body 2.00x1.25mm, IPC Medium Density)
pins: 1 A, 2 B

## RC0805FR-0711KL
designator R?, comment 11K
RES SMD 11K OHM 1% 1/8W 0805; Supplier 1: Digikey; Supplier Part Number 1: 311-11.0KCRCT-ND; Supplier 2: LCSC; Supplier Part Number 2: C137597; Supplier 3: Digikey; Supplier Part Number 3: 541-11.0KCCT-ND; Supplier 4: LCSC; Supplier Part Number 4: C844600
footprint RES 0805_2012 (Chip Resistor, 2-Leads, Body 2.00x1.25mm, IPC Medium Density)
pins: 1 A, 2 B

## RC0805FR-0713KL
designator R?, comment 13K
RES SMD 13K OHM 1% 1/8W 0805; Supplier 1: Digikey; Supplier Part Number 1: 311-13.0KCRCT-ND; Supplier 2: LCSC; Supplier Part Number 2: C137592; Supplier 3: Digikey; Supplier Part Number 3: P13.0KCCT-ND; Supplier 4: LCSC; Supplier Part Number 4: C17455
footprint RES 0805_2012 (Chip Resistor, 2-Leads, Body 2.00x1.25mm, IPC Medium Density)
pins: 1 A, 2 B

## RC0805FR-0720RL
designator R?, comment 20R
RES SMD 20 OHM 1% 1/8W 0805; Supplier 1: Digikey; Supplier Part Number 1: 311-20.0CRCT-ND; Supplier 2: LCSC; Supplier Part Number 2: C114557; Supplier 3: Digikey; Supplier Part Number 3: P20ACT-ND; Supplier 4: LCSC; Supplier Part Number 4: C413151
footprint RES 0805_2012 (Chip Resistor, 2-Leads, Body 2.00x1.25mm, IPC Medium Density)
pins: 1 A, 2 B

## RC0805FR-07470RL
designator R?, comment 470R
RES SMD 470 OHM 1% 1/8W 0805; Supplier 1: Digikey; Supplier Part Number 1: 311-470CRCT-ND; Supplier Part Number 3: P470ACT-ND; Supplier 4: LCSC; Supplier Part Number 4: C230656; Supplier 3: Digikey; Supplier Part Number 2: C114564; Supplier 2: LCSC
footprint RES 0805_2012 (Chip Resistor, 2-Leads, Body 2.00x1.25mm, IPC Medium Density)
pins: 1 A, 2 B

## RC0805FR-07510RL
designator R?, comment 510
RES SMD 510 OHM 5% 1/4W 0805; Supplier 1: Digikey; Supplier Part Number 1: 311-510CRCT-ND; Supplier 2: LCSC; Supplier Part Number 2: C114563; Supplier 3: Digikey; Supplier Part Number 3: 541-510ACT-ND; Supplier 4: LCSC; Supplier Part Number 4: C5158085
footprint RES 0805_2012 (Chip Resistor, 2-Leads, Body 2.00x1.25mm, IPC Medium Density)
pins: 1 A, 2 B

## RC0805JR-070RL
designator R?, comment 0R
RES SMD 0 OHM JUMPER 1/8W 0805; Supplier 1: Digikey; Supplier Part Number 1: 311-0.0ARCT-ND; Supplier 2: LCSC; Supplier Part Number 2: C100045
footprint RES 0805_2012 (Chip Resistor, 2-Leads, Body 2.00x1.25mm, IPC Medium Density)
pins: 1 A, 2 B

## RC1206FR-071K5L
designator R?, comment 1.5k
RES SMD 1.5k OHM 1% 1/4W 1206; Supplier 1: Digikey; Supplier Part Number 1: 311-1.50KFRCT-ND; Supplier 2: LCSC; Supplier Part Number 2: C114929
footprint RES 1206_3216 (Chip Resistor, 2-Leads, Body 3.13x1.55mm, IPC Medium Density)
pins: 1 A, 2 B

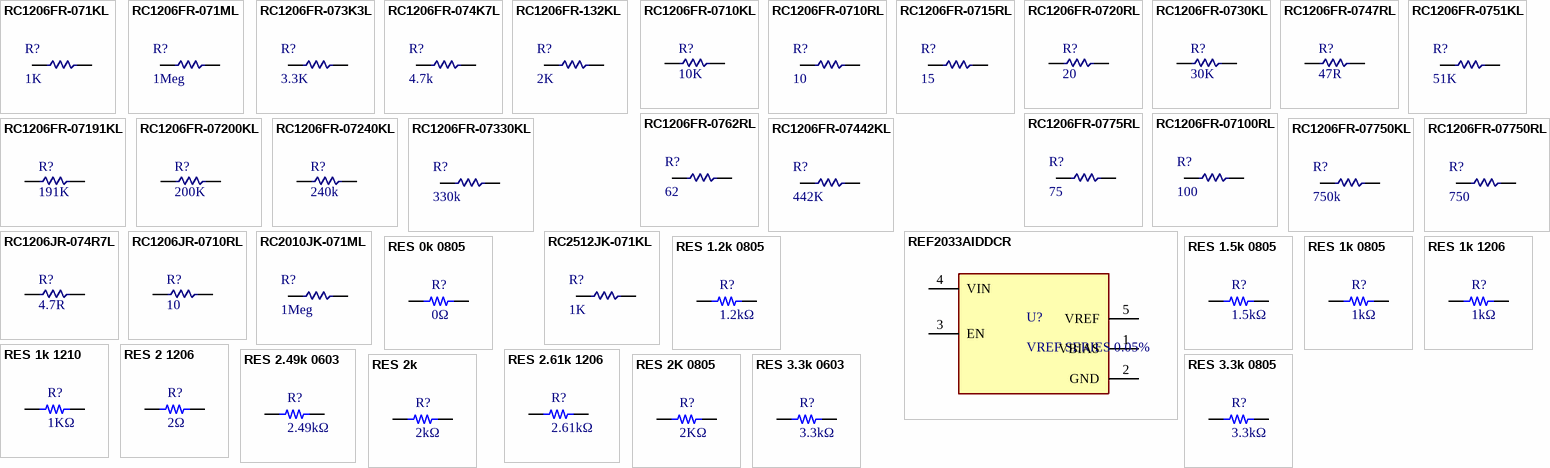
[diagram p19: symbols RC1206FR-071KL to RES 3.3k 0805]

## RC1206FR-071KL
designator R?, comment 1K
RES SMD 1K OHM 1% 1/4W 1206; ComponentLink1Description: DIGIKEY; ComponentLink1URL: https://www.digikey.com/en/products/detail/yageo/RC1206FR-071KL/728387; ComponentLink2Description: LCSC; ComponentLink2URL: https://www.lcsc.com/product-detail/Chip-Resistor-Surface-Mount_YAGEO-RC1206FR-071KL_C131398.html; Supplier 1: Digikey; Supplier Part Number 1: 311-1.00KFRCT-ND; Supplier 2: LCSC; Supplier Part Number 2: C131398; Supplier 3: Digikey; Supplier Part Number 3: P1.00KFCT-ND; Supplier 4: LCSC; Supplier Part Number 4: C278660
footprint RES 1206_3216 (Chip Resistor, 2-Leads, Body 3.13x1.55mm, IPC Medium Density)
pins: 1 A, 2 B

## RC1206FR-071ML
designator R?, comment 1Meg
RES SMD 1M OHM 1% 1/4W 1206; Supplier 1: Digikey; Supplier Part Number 1: 311-1.00MFRCT-ND; Supplier 2: LCSC; Supplier Part Number 2: C108083
footprint RES 1206_3216 (Chip Resistor, 2-Leads, Body 3.13x1.55mm, IPC Medium Density)
pins: 1 A, 2 B

## RC1206FR-073K3L
designator R?, comment 3.3K
RES SMD 3.3K OHM 1% 1/4W 1206; Supplier 1: DigiKey; Supplier Part Number 1: 311-3.30KFRCT-ND; Supplier 2: LCSC; Supplier Part Number 2: C137292
footprint RES 1206_3216 (Chip Resistor, 2-Leads, Body 3.13x1.55mm, IPC Medium Density)
pins: 1 A, 2 B

## RC1206FR-074K7L
designator R?, comment 4.7k
RES SMD 4.7K OHM 1% 1/4W 1206; Supplier 1: Digikey; Supplier Part Number 1: 311-4.70KFRCT-ND; Supplier 2: LCSC; Supplier Part Number 2: C137262
footprint RES 1206_3216 (Chip Resistor, 2-Leads, Body 3.13x1.55mm, IPC Medium Density)
pins: 1 A, 2 B

## RC1206FR-132KL
designator R?, comment 2K
RES SMD 2K OHM 1% 1/4W 1206; Supplier 1: DigiKey; Supplier Part Number 1: 13-RC1206FR-132KLCT-ND; Supplier 2: LCSC; Supplier Part Number 2: C133543
footprint RES 1206_3216 (Chip Resistor, 2-Leads, Body 3.13x1.55mm, IPC Medium Density)
pins: 1 A, 2 B

## RC1206FR-0710KL
designator R?, comment 10K
RES SMD 10K OHM 1% 1/4W 1206; Supplier 1: DigiKey; Supplier Part Number 1: 311-10.0KFRCT-ND; Supplier 2: LCSC; Supplier Part Number 2: C132649
footprint RES 1206_3216
pins: 1 A, 2 B

## RC1206FR-0710RL
designator R?, comment 10
RES SMD 10 OHM 1% 1/4W 1206; Supplier 1: Digikey; Supplier Part Number 1: 311-10.0FRCT-ND; Supplier 2: LCSC; Supplier Part Number 2: C108080; Supplier 3: DigiKey; Supplier Part Number 3: 541-10.0UCT-ND; Supplier 4: LCSC; Supplier Part Number 4: C511457
footprint RES 1206_3216 (Chip Resistor, 2-Leads, Body 3.13x1.55mm, IPC Medium Density)
pins: 1 A, 2 B

## RC1206FR-0715RL
designator R?, comment 15
RES SMD 15 OHM 1% 1/4W 1206; ComponentLink1Description: DIGIKEY; ComponentLink1URL: https://www.digikey.com/en/products/detail/yageo/RC1206FR-0715RL/728555?s=N4IgTCBcDaIEoGECMYAMA2AYnAtKg7EgKxwAyIAugL5A; ComponentLink2Description: LCSC; ComponentLink2URL: https://www.lcsc.com/product-detail/Chip-Resistor-Surface-Mount_YAGEO-RC1206FR-0715RL_C137386.html; Supplier 1: Digikey; Supplier Part Number 1: 311-15.0FRCT-ND; Supplier 2: LCSC; Supplier Part Number 2: C137386; Supplier 3: Digikey; Supplier Part Number 3: 541-15.0FCT-ND; Supplier 4: LCSC; Supplier Part Number 4: C844650
footprint RES 1206_3216 (Chip Resistor, 2-Leads, Body 3.13x1.55mm, IPC Medium Density)
pins: 1 A, 2 B

## RC1206FR-0720RL
designator R?, comment 20
RES SMD 20 OHM 1% 1/4W 1206; Supplier 1: Digikey; Supplier Part Number 1: 311-20.0FRCT-ND; Supplier 2: LCSC; Supplier Part Number 2: C105575; Supplier 3: Digikey; Supplier Part Number 3: CR1206-FX-20R0ELFDKR-ND; Supplier 4: LCSC; Supplier Part Number 4: C204742
footprint RES 1206_3216 (Chip Resistor, 2-Leads, Body 3.13x1.55mm, IPC Medium Density)
pins: 1 A, 2 B

## RC1206FR-0730KL
designator R?, comment 30K
RES SMD 30K OHM 1% 1/4W 1206; Supplier 1: Digikey; Supplier Part Number 1: 311-30.0KFRCT-ND; Supplier 2: LCSC; Supplier Part Number 2: C137314; Supplier 3: Digikey; Supplier Part Number 3: P30.0KFCT-ND; Supplier 4: LCSC; Supplier Part Number 4: C2079831
footprint RES 1206_3216 (Chip Resistor, 2-Leads, Body 3.13x1.55mm, IPC Medium Density)
pins: 1 A, 2 B

## RC1206FR-0747RL
designator R?, comment 47R
RES SMD 47 OHM 1% 1/4W 1206; Supplier 1: DigiKey; Supplier Part Number 1: 311-47.0FRCT-ND; Supplier 2: LCSC; Supplier Part Number 2: C137268
footprint RES 1206_3216 (Chip Resistor, 2-Leads, Body 3.13x1.55mm, IPC Medium Density)
pins: 1 A, 2 B

## RC1206FR-0751KL
designator R?, comment 51K
RES SMD 51K OHM 1% 1/4W 1206; ComponentLink1Description: DIGIKEY; ComponentLink1URL: https://www.digikey.com/en/products/detail/yageo/RC1206FR-0751KL/728974; ComponentLink2Description: LCSC; ComponentLink2URL: https://www.lcsc.com/product-detail/Chip-Resistor-Surface-Mount_YAGEO-RC1206FR-0751KL_C114947.html; Supplier 1: Digikey; Supplier Part Number 1: 311-51.0KFRCT-ND; Supplier 2: LCSC; Supplier Part Number 2: C114947; Supplier 3: Digikey; Supplier Part Number 3: 541-CRCW120651K0FKEACCT-ND; Supplier 4: LCSC; Supplier Part Number 4: C17992
footprint RES 1206_3216 (Chip Resistor, 2-Leads, Body 3.13x1.55mm, IPC Medium Density)
pins: 1 A, 2 B

## RC1206FR-0762RL
designator R?, comment 62
RES SMD 62 OHM 1% 1/4W 1206; ComponentLink1Description: DIGIKEY; ComponentLink1URL: https://www.digikey.com/en/products/detail/yageo/RC1206FR-0762RL/729044?s=N4IgTCBcDaIEoGECMYAMA2AYnAtKg7OmHADIgC6AvkA; ComponentLink2Description: LCSC; ComponentLink2URL: https://www.lcsc.com/product-detail/Chip-Resistor-Surface-Mount_YAGEO-RC1206FR-0762RL_C137243.html; Supplier 1: Digikey; Supplier Part Number 1: 311-62.0FRCT-ND; Supplier 2: LCSC; Supplier Part Number 2: C137243; Supplier 3: Digikey; Supplier Part Number 3: 541-62.0FCT-ND; Supplier 4: LCSC; Supplier Part Number 4: C2080760
footprint RES 1206_3216 (Chip Resistor, 2-Leads, Body 3.13x1.55mm, IPC Medium Density)
pins: 1 A, 2 B

## RC1206FR-0775RL
designator R?, comment 75
RES SMD 75 OHM 1% 1/4W 1206; ComponentLink1Description: DIGIKEY; ComponentLink1URL: https://www.digikey.com/en/products/detail/yageo/RC1206FR-0775RL/729095?s=N4IgTCBcDaIEoGECMYAMA2AYnAtKg7PgKxwAyIAugL5A; ComponentLink2Description: LCSC; ComponentLink2URL: https://www.lcsc.com/product-detail/Chip-Resistor-Surface-Mount_YAGEO-RC1206FR-0775RL_C137233.html; Supplier 1: Digikey; Supplier Part Number 1: 311-75.0FRCT-ND; Supplier 2: LCSC; Supplier Part Number 2: C137233; Supplier 3: Digikey; Supplier Part Number 3: 541-75.0UCT-ND; Supplier 4: LCSC; Supplier Part Number 4: C2907535
footprint RES 1206_3216 (Chip Resistor, 2-Leads, Body 3.13x1.55mm, IPC Medium Density)
pins: 1 A, 2 B

## RC1206FR-07100RL
designator R?, comment 100
RES SMD 100 OHM 1% 1/4W 1206; ComponentLink1Description: DIGIKEY; ComponentLink1URL: https://www.digikey.com/en/products/detail/yageo/RC1206FR-07100RL/728491; ComponentLink2Description: LCSC; ComponentLink2URL: https://www.lcsc.com/product-detail/Chip-Resistor-Surface-Mount_YAGEO-RC1206FR-07100KL_C137393.html; Supplier 1: DigiKey; Supplier Part Number 1: 311-100FRCT-ND; Supplier 2: LCSC; Supplier Part Number 2: C137392; Supplier 3: Digikey; Supplier Part Number 3: P100FCT-ND; Supplier 4: LCSC; Supplier Part Number 4: C193987
footprint RES 1206_3216 (Chip Resistor, 2-Leads, Body 3.13x1.55mm, IPC Medium Density)
pins: 1 A, 2 B

## RC1206FR-07191KL
designator R?, comment 191K
RES SMD 191K OHM 1% 1/4W 1206; Supplier 2: LCSC; Supplier Part Number 2: C2930412; Supplier 4: LCSC; Supplier Part Number 4: C102112; Supplier 1: Digikey; Supplier Part Number 1: 311-191KFRCT-ND; Supplier 3: Digikey; Supplier Part Number 3: 541-191KFCT-ND
footprint RES 1206_3216 (Chip Resistor, 2-Leads, Body 3.13x1.55mm, IPC Medium Density)
pins: 1 A, 2 B

## RC1206FR-07200KL
designator R?, comment 200K
RES SMD 200K OHM 1% 1/4W 1206; Supplier 2: LCSC; Supplier Part Number 2: C114937; Supplier 1: Digikey; Supplier Part Number 1: 311-200KFRCT-ND
footprint RES 1206_3216 (Chip Resistor, 2-Leads, Body 3.13x1.55mm, IPC Medium Density)
pins: 1 A, 2 B

## RC1206FR-07240KL
designator R?, comment 240k
RES SMD 240K OHM 1% 1/4W 1206; Supplier 1: DigiKey; Supplier Part Number 1: 311-240KFRCT-ND; Supplier 2: LCSC; Supplier Part Number 2: C137351
footprint RES 1206_3216 (Chip Resistor, 2-Leads, Body 3.13x1.55mm, IPC Medium Density)
pins: 1 A, 2 B

## RC1206FR-07330KL
designator R?, comment 330k
RES SMD 330K OHM 1% 1/4W 1206; Supplier 1: Digikey; Supplier Part Number 1: 311-330KFRCT-ND; Supplier 2: LCSC; Supplier Part Number 2: C137312; Supplier 3: Digikey; Supplier Part Number 3: A129840CT-ND; Supplier 4: LCSC; Supplier Part Number 4: C17929
footprint RES 1206_3216 (Chip Resistor, 2-Leads, Body 3.13x1.55mm, IPC Medium Density)
pins: 1 A, 2 B

## RC1206FR-07442KL
designator R?, comment 442K
RES SMD 442K OHM 1% 1/4W 1206; ComponentLink1Description: DIGIKEY; ComponentLink1URL: https://www.digikey.com/en/products/detail/yageo/RC1206FR-07442KL/728921; ComponentLink2Description: LCSC; ComponentLink2URL: https://www.lcsc.com/product-detail/Chip-Resistor-Surface-Mount_YAGEO-RC1206FR-07442KL_C488856.html; Supplier 1: Digikey; Supplier Part Number 1: 311-442KFRCT-ND; Supplier 2: LCSC; Supplier Part Number 2: C488856; Supplier 3: Digikey; Supplier Part Number 3: 311-442KFRCT-ND; Supplier 4: LCSC; Supplier Part Number 4: C42372181
footprint RES 1206_3216 (Chip Resistor, 2-Leads, Body 3.13x1.55mm, IPC Medium Density)
pins: 1 A, 2 B

## RC1206FR-07750KL
designator R?, comment 750k
RES SMD 750K OHM 1% 1/4W 1206; Supplier 1: Digikey; Supplier Part Number 1: 311-750KFRCT-ND; Supplier 2: LCSC; Supplier Part Number 2: C4110877; Supplier 3: Digikey; Supplier Part Number 3: 541-750KECT-ND; Supplier 4: LCSC; Supplier Part Number 4: C2933754
footprint RES 1206_3216 (Chip Resistor, 2-Leads, Body 3.13x1.55mm, IPC Medium Density)
pins: 1 A, 2 B

## RC1206FR-07750RL
designator R?, comment 750
RES MD 750 OHM 1% 1/4W 1206; ComponentLink1Description: DIGIKEY; ComponentLink1URL: https://www.digikey.com/en/products/detail/yageo/RC1206FR-07750RL/729097?s=N4IgTCBcDaIEoGECMYAMA2AYnAtKg7PgKypwAyIAugL5A; ComponentLink2Description: LCSC; ComponentLink2URL: https://www.lcsc.com/product-detail/Chip-Resistor-Surface-Mount_YAGEO-RC1206FR-07750RL_C185259.html; Supplier 1: Digikey; Supplier Part Number 1: 311-750FRCT-ND; Supplier 2: LCSC; Supplier Part Number 2: C185259; Supplier 3: Digikey; Supplier Part Number 3: 311-750FRCT-ND; Supplier 4: LCSC; Supplier Part Number 4: C185259; Supplier 5: Mouser; Supplier Part Number 5: 71-CRCW1206750RFKEAH; Supplier 6: LCSC; Supplier Part Number 6: C2078686
footprint RES 1206_3216 (Chip Resistor, 2-Leads, Body 3.13x1.55mm, IPC Medium Density)
pins: 1 A, 2 B

## RC1206JR-074R7L
designator R?, comment 4.7R
RES SMD 4.7 OHM 5% 1/4W 1206; Supplier 1: Digikey; Supplier Part Number 1: 311-4.7ERCT-ND; Supplier 2: LCSC; Supplier Part Number 2: C137258; Supplier 3: Digikey; Supplier Part Number 3: 541-4.70UCT-ND; Supplier 4: LCSC; Supplier Part Number 4: C2907501
footprint RES 1206_3216 (Chip Resistor, 2-Leads, Body 3.13x1.55mm, IPC Medium Density)
pins: 1 A, 2 B

## RC1206JR-0710RL
designator R?, comment 10
RES SMD 10 OHM 5% 1/4W 1206; Supplier 1: Digikey; Supplier Part Number 1: 311-10ERCT-ND; Supplier 2: LCSC; Supplier Part Number 2: C137208; Supplier 3: Digikey; Supplier Part Number 3: 541-10.0UCT-ND; Supplier 4: LCSC; Supplier Part Number 4: C2907424
footprint RES 1206_3216 (Chip Resistor, 2-Leads, Body 3.13x1.55mm, IPC Medium Density)
pins: 1 A, 2 B

## RC2010JK-071ML
designator R?, comment 1Meg
RES SMD 1M OHM 5% 3/4W 2010; Supplier 1: Digikey; Supplier Part Number 1: 13-RC2010JK-071MLCT-ND; Supplier 2: LCSC; Supplier Part Number 2: C1883562; Supplier 3: Digikey; Supplier Part Number 3: A130281CT-ND; Supplier 4: LCSC; Supplier Part Number 4: C421755
footprint RES 2010_3613 (Chip Resistor, 2-Leads, Body 5.00x2.54mm, IPC Medium Density)
pins: 1 A, 2 B

## RC2512JK-071KL
designator R?, comment 1K
RES SMD 1K OHM 5% 1W 2512; ComponentLink1Description: DIGIKEY; ComponentLink1URL: https://www.digikey.com/en/products/detail/yageo/RC2512JK-071KL/5922509; ComponentLink2Description: LCSC; ComponentLink2URL: https://www.lcsc.com/product-detail/Chip-Resistor-Surface-Mount_YAGEO-RC2512JK-071KL_C137010.html; Supplier 1: DigiKey; Supplier Part Number 1: YAG3397CT-ND; Supplier 2: LCSC; Supplier Part Number 2: C137010; Supplier 3: Digikey; Supplier Part Number 3: 541-1.00KAFCT-ND; Supplier 4: LCSC; Supplier Part Number 4: C844886
footprint RES 2512_6332 (Chip Resistor, 2-Leads, Body 6.30x3.20mm, IPC Medium Density)
pins: 1 A, 2 B

## REF2033AIDDCR
designator U?, comment VREF SERIES 0.05%
IC 3.3-V Vref, low-drift, low-power, dual-output Vref & Vref/2 voltage reference 5-SOT-23-THIN -40 to 125; Supplier 1: DigiKey; Supplier Part Number 1: 296-46177-1-ND; Supplier 2: LCSC; Supplier Part Number 2: C440747
footprint SOT23-5 TI
pins: 1 VBIAS, 2 GND (power), 3 EN, 4 VIN (power), 5 VREF

## RES 0k 0805
designator R?, comment 0Ω
RES SMD 0R 1% 0805; Supplier 1: Makers; Supplier Part Number 1: https://makerselectronics.com/product/chip-resistor-smd-0%cf%89-%c2%b11-0-125w-0805; ComponentLink1Description: Makers; ComponentLink1URL: https://makerselectronics.com/product/chip-resistor-smd-0%cf%89-%c2%b11-0-125w-0805
footprint RES 0805_2012 (Chip Resistor, 2-Leads, Body 2.00x1.25mm, IPC Medium Density)
pins: 1, 2

## RES 1.2k 0805
designator R?, comment 1.2kΩ
RES SMD 1.2k 1% 0805  current sense 15/1.2 * 0.04 = 0.5 *20 = 10; Supplier 1: Makers; Supplier Part Number 1: https://makerselectronics.com/product/chip-resistor-smd-1-2k%cf%89-%c2%b11-0-125w-%c2%b1100ppm-%e2%84%83-0805; ComponentLink1Description: Makers; ComponentLink1URL: https://makerselectronics.com/product/chip-resistor-smd-1-2k%cf%89-%c2%b11-0-125w-%c2%b1100ppm-%e2%84%83-0805
footprint RES 0805_2012 (Chip Resistor, 2-Leads, Body 2.00x1.25mm, IPC Medium Density)
pins: 1, 2

## RES 1.5k 0805
designator R?, comment 1.5kΩ
RES SMD 1.5k 1% 0805
footprint RES 0805_2012 (Chip Resistor, 2-Leads, Body 2.00x1.25mm, IPC Medium Density)
pins: 1, 2